# Altium schematic symbol library StepCounter_sensor_schlib.SchLib: 6 symbols
Pins are listed as number, name and electrical type; pins without a type are passive.

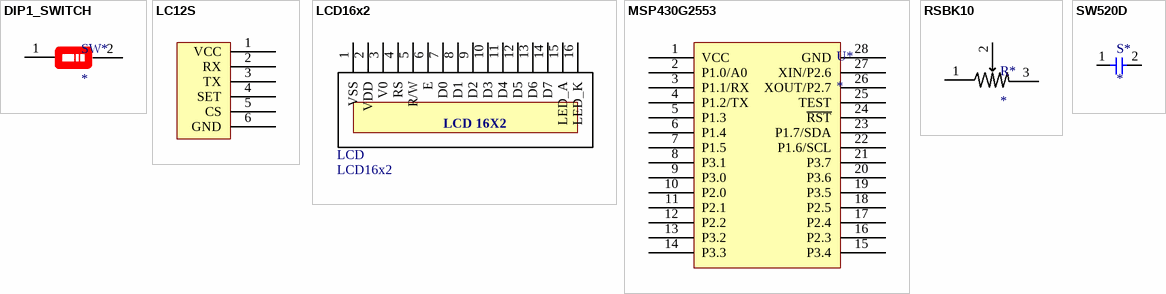
[diagram p0: symbols DIP1_SWITCH to SW520D]

## DIP1_SWITCH
designator SW*
footprint DIP1P-SWITCH (DIP1P-SUITCH)
pins: 1 7, 2 1

## LC12S
designator RF*
footprint JP6
pins: 1 VCC, 2 RX, 3 TX, 4 SET, 5 CS, 6 GND

## LCD16x2
designator LCD
footprint LCD_16x2 (Test)
pins: 1 VSS, 2 VDD, 3 V0, 4 RS, 5 R/W, 6 E, 7 D0, 8 D1, 9 D2, 10 D3, 11 D4, 12 D5, 13 D6, 14 D7, 15 LED_A, 16 LED_K
text: LCD 16X2

## MSP430G2553
designator U*
footprint msp430g2553tsstop (TSOP, 28-Leads, Body 9.70x4.40mm, Pitch 0.65mm, IPC Medium Density)
pins: 1 VCC, 2 P1.0/A0, 3 P1.1/RX, 4 P1.2/TX, 5 P1.3, 6 P1.4, 7 P1.5, 8 P3.1, 9 P3.0, 10 P2.0, 11 P2.1, 12 P2.2, 13 P3.2, 14 P3.3, 15 P3.4, 16 P2.3, 17 P2.4, 18 P2.5, 19 P3.5, 20 P3.6, 21 P3.7, 22 P1.6/SCL, 23 P1.7/SDA, 24 ~{RST}, 25 TEST, 26 XOUT/P2.7, 27 XIN/P2.6, 28 GND

## RSBK10
designator R*
footprint Axial 0.6
footprint REBK10
pins: 1, 2, 3

## SW520D
designator S*
footprint CP1/2 (Tu hoa < 22uF/16>50V)
pins: 1, 2